# Altium schematic symbol library SCH - INTERFACE - NXP TJA1020.Schlib: 1 symbol
Pins are listed as number, name and electrical type; pins without a type are passive.

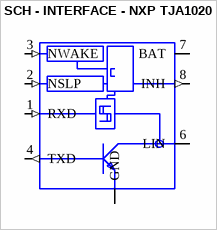
[diagram p0: symbol SCH - INTERFACE - NXP TJA1020]

## SCH - INTERFACE - NXP TJA1020
designator ?
footprint SO8
pins: 1 RXD (in), 2 NSLP (in), 3 NWAKE (in), 4 TXD (out), 5 GND (power), 6 LIN (io), 7 BAT (power), 8 INH (out)